# Altium footprint library CHIP_SMD.PcbLib: 26 footprints (part 1 of 2)
Each footprint in its own frame and in the unit in brackets; x right, y up, seen from the top. Pads: shape width x height; smd on the part's side, far side on the other; paste and mask are expansions set on the pad; w line width, h text height; cw(c..) or ccw(c..) is an arc to the next point about the centre after c.
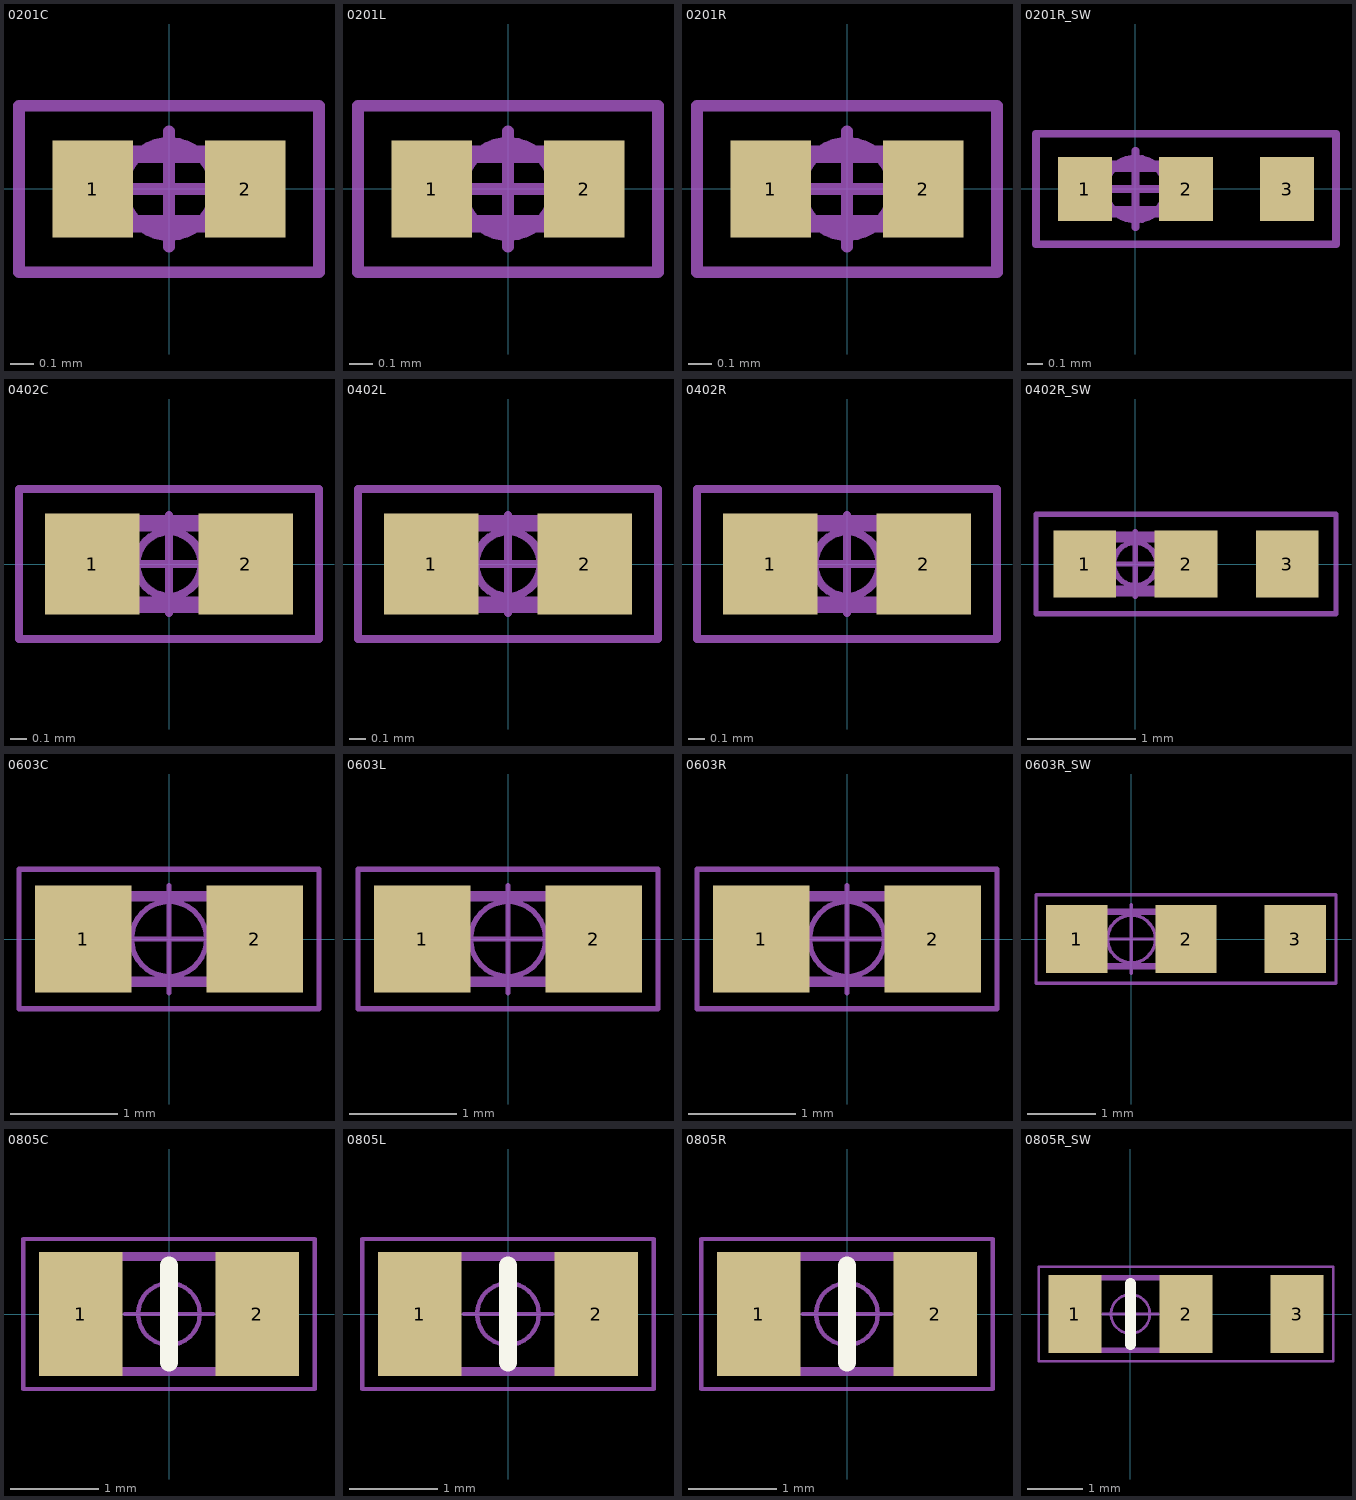
[diagram p0: the footprints below, top view; thin cyan lines are the x and y axes]

## 0201C [mm] "Chip Resistor, EIA 0201, Metric 0603, Body 0.6 x 0.3mm, IPC Medium Density"
height 0.28
pads (2):
  rect 0.35x0.42 smd: 1(-0.33,0) 2(0.33,0)
Mechanical 14:
  lines w0.075: -0.3,-0.15 -0.3,0.15 0.3,0.15 0.3,-0.15 -0.3,-0.15
  text ".Designator" at -0.15,-0.05 h0.1
Mechanical 15:
  circle w0.05: c0,0 r0.2
  lines w0.05: -0.3,0 0.3,0 ; 0,-0.25 0,0.25 ; -0.65,-0.36 -0.65,0.36 0.65,0.36 0.65,-0.36 -0.65,-0.36
3D body "CAPC0603X33N.stp": height 0.33, standoff 0, extent -0.315,-0.165 0.315,0.165

## 0201L [mm] "Chip Resistor, EIA 0201, Metric 0603, Body 0.6 x 0.3mm, IPC Medium Density"
height 0.28
pads (2):
  rect 0.35x0.42 smd: 1(-0.33,0) 2(0.33,0)
Mechanical 14:
  lines w0.075: -0.3,-0.15 -0.3,0.15 0.3,0.15 0.3,-0.15 -0.3,-0.15
  text ".Designator" at -0.15,-0.05 h0.1
Mechanical 15:
  circle w0.05: c0,0 r0.2
  lines w0.05: -0.3,0 0.3,0 ; 0,-0.25 0,0.25 ; -0.65,-0.36 0.65,-0.36 0.65,0.36 -0.65,0.36 -0.65,-0.36
3D body "L0201.step": height 0.3, standoff 0, extent -0.3,-0.15 0.3,0.15

## 0201R [mm] "Chip Resistor, EIA 0201, Metric 0603, Body 0.6 x 0.3mm, IPC Medium Density"
height 0.28
pads (2):
  rect 0.35x0.42 smd: 1(-0.33,0) 2(0.33,0)
Mechanical 14:
  lines w0.075: -0.3,-0.15 0.3,-0.15 0.3,0.15 -0.3,0.15 -0.3,-0.15
  text ".Designator" at -0.15,-0.05 h0.1
Mechanical 15:
  circle w0.05: c0,0 r0.2
  lines w0.05: -0.3,0 0.3,0 ; 0,-0.25 0,0.25 ; -0.65,-0.36 -0.65,0.36 0.65,0.36 0.65,-0.36 -0.65,-0.36
3D body "RESC0603X28N.stp": height 0.28, standoff 0, extent -0.325,-0.175 0.325,0.175

## 0201R_SW [mm] "Chip Resistor, EIA 0201, Metric 0603, Body 0.6 x 0.3mm, IPC Medium Density"
height 0.28
pads (3):
  rect 0.35x0.42 smd: 1(-0.33,0) 2(0.33,0) 3(0.99,0)
Mechanical 14:
  lines w0.075: -0.3,-0.15 0.3,-0.15 0.3,0.15 -0.3,0.15 -0.3,-0.15
  text ".Designator" at -0.15,-0.05 h0.1
Mechanical 15:
  circle w0.05: c0,0 r0.2
  lines w0.05: -0.3,0 0.3,0 ; 0,-0.25 0,0.25 ; -0.65,-0.36 -0.65,0.36 1.31,0.36 1.31,-0.36 -0.65,-0.36
3D body "RESC0603X28N.stp": height 0.28, standoff 0, extent -0.325,-0.175 0.325,0.175

## 0402C [mm] "Chip Resistor, EIA 0402, Metric 1005, Body 1.0x0.5mm, IPC Medium Density"
height 0.4
pads (2):
  rect 0.58x0.62 smd: 1(-0.47,0) 2(0.47,0)
Mechanical 14:
  lines w0.1: -0.5,-0.25 0.5,-0.25 0.5,0.25 -0.5,0.25 -0.5,-0.25
  text ".Designator" at -0.35,-0.1 h0.2
Mechanical 15:
  circle w0.05: c0,0 r0.2
  lines w0.05: -0.3,0 0.3,0 ; 0,-0.3 0,0.3 ; -0.92,-0.46 0.92,-0.46 0.92,0.46 -0.92,0.46 -0.92,-0.46
3D body "CAPC1005X55N.stp": height 0.55, standoff 0, extent -0.525,-0.275 0.525,0.275

## 0402L [mm] "Chip Resistor, EIA 0402, Metric 1005, Body 1.0x0.5mm, IPC Medium Density"
height 0.4
pads (2):
  rect 0.58x0.62 smd: 1(-0.47,0) 2(0.47,0)
Mechanical 14:
  lines w0.1: -0.5,-0.25 -0.5,0.25 0.5,0.25 0.5,-0.25 -0.5,-0.25
  text ".Designator" at -0.35,-0.1 h0.2
Mechanical 15:
  circle w0.05: c0,0 r0.2
  lines w0.05: -0.3,0 0.3,0 ; 0,-0.3 0,0.3 ; -0.92,-0.46 0.92,-0.46 0.92,0.46 -0.92,0.46 -0.92,-0.46
3D body "L0402.step": height 0.5, standoff 0, extent -0.5,-0.25 0.5,0.25

## 0402R [mm] "Chip Resistor, EIA 0402, Metric 1005, Body 1.0x0.5mm, IPC Medium Density"
height 0.4
pads (2):
  rect 0.58x0.62 smd: 1(-0.47,0) 2(0.47,0)
Mechanical 14:
  lines w0.1: -0.5,-0.25 0.5,-0.25 0.5,0.25 -0.5,0.25 -0.5,-0.25
  text ".Designator" at -0.35,-0.1 h0.2
Mechanical 15:
  circle w0.05: c0,0 r0.2
  lines w0.05: -0.3,0 0.3,0 ; 0,-0.3 0,0.3 ; -0.92,-0.46 0.92,-0.46 0.92,0.46 -0.92,0.46 -0.92,-0.46
3D body "RESC1005X40N.stp": height 0.4, standoff 0, extent -0.525,-0.275 0.525,0.275

## 0402R_SW [mm] "Chip Resistor, EIA 0402, Metric 1005, Body 1.0x0.5mm, IPC Medium Density"
height 0.4
pads (3):
  rect 0.58x0.62 smd: 1(-0.47,0) 2(0.47,0) 3(1.41,0)
Mechanical 14:
  lines w0.1: -0.5,-0.25 -0.5,0.25 0.5,0.25 0.5,-0.25 -0.5,-0.25
  text ".Designator" at -0.35,-0.1 h0.2
Mechanical 15:
  circle w0.05: c0,0 r0.2
  lines w0.05: -0.3,0 0.3,0 ; 0,-0.3 0,0.3 ; -0.92,-0.46 -0.92,0.46 1.86,0.46 1.86,-0.46 -0.92,-0.46
3D body "RESC1005X40N.stp": height 0.4, standoff 0, extent -0.525,-0.275 0.525,0.275

## 0603C [mm] "Chip Resistor, EIA 0603, Metric 1608, Body 1.6x0.8mm, IPC Medium Density"
height 0.55
pads (2):
  rect 0.9x1 smd: 1(-0.8,0) 2(0.8,0)
Mechanical 14:
  lines w0.1: -0.85,-0.4 -0.85,0.4 0.85,0.4 0.85,-0.4 -0.85,-0.4
  text ".Designator" at -0.7,-0.2 h0.4
Mechanical 15:
  circle w0.05: c0,0 r0.35
  lines w0.05: -0.5,0 0.5,0 ; 0,-0.5 0,0.5 ; -1.4,-0.65 1.4,-0.65 1.4,0.65 -1.4,0.65 -1.4,-0.65
3D body "CAPC1608X85N.stp": height 0.85, standoff 0, extent -0.875,-0.475 0.875,0.475

## 0603L [mm] "Chip Resistor, EIA 0603, Metric 1608, Body 1.6x0.8mm, IPC Medium Density"
height 0.55
pads (2):
  rect 0.9x1 smd: 1(-0.8,0) 2(0.8,0)
Mechanical 14:
  lines w0.1: -0.85,-0.4 0.85,-0.4 0.85,0.4 -0.85,0.4 -0.85,-0.4
  text ".Designator" at -0.7,-0.2 h0.4
Mechanical 15:
  circle w0.05: c0,0 r0.35
  lines w0.05: -0.5,0 0.5,0 ; 0,-0.5 0,0.5 ; -1.4,-0.65 1.4,-0.65 1.4,0.65 -1.4,0.65 -1.4,-0.65
3D body "L0603.step": height 0.5, standoff 0, extent -0.8,-0.4 0.8,0.4

## 0603R [mm] "Chip Resistor, EIA 0603, Metric 1608, Body 1.6x0.8mm, IPC Medium Density"
height 0.55
pads (2):
  rect 0.9x1 smd: 1(-0.8,0) 2(0.8,0)
Mechanical 14:
  lines w0.1: -0.85,-0.4 -0.85,0.4 0.85,0.4 0.85,-0.4 -0.85,-0.4
  text ".Designator" at -0.7,-0.2 h0.4
Mechanical 15:
  circle w0.05: c0,0 r0.35
  lines w0.05: -0.5,0 0.5,0 ; 0,-0.5 0,0.5 ; -1.4,-0.65 -1.4,0.65 1.4,0.65 1.4,-0.65 -1.4,-0.65
3D body "RESC1608X55N.stp": height 0.55, standoff 0, extent -0.875,-0.475 0.875,0.475

## 0603R_SW [mm] "Chip Resistor, EIA 0603, Metric 1608, Body 1.6x0.8mm, IPC Medium Density"
height 0.55
pads (3):
  rect 0.9x1 smd: 1(-0.8,0) 2(0.8,0) 3(2.4,0)
Mechanical 14:
  lines w0.1: -0.85,-0.4 -0.85,0.4 0.85,0.4 0.85,-0.4 -0.85,-0.4
  text ".Designator" at -0.7,-0.2 h0.4
Mechanical 15:
  circle w0.05: c0,0 r0.35
  lines w0.05: -0.5,0 0.5,0 ; 0,-0.5 0,0.5 ; -1.4,-0.65 -1.4,0.65 3,0.65 3,-0.65 -1.4,-0.65
3D body "RESC1608X55N.stp": height 0.55, standoff 0, extent -0.875,-0.475 0.875,0.475

## 0805C [mm] "Chip Resistor, EIA 0805, Metric 2012, Body 2.0x1.2mm, IPC Medium Density"
height 0.6
pads (2):
  rect 0.95x1.4 smd: 1(-1,0) 2(1,0)
Top Overlay:
  lines w0.2: 0,-0.55 0,0.55
Mechanical 14:
  lines w0.1: -1.05,-0.65 -1.05,0.65 1.05,0.65 1.05,-0.65 -1.05,-0.65
  text ".Designator" at -0.85,-0.25 h0.5
Mechanical 15:
  circle w0.05: c0,0 r0.35
  lines w0.05: -0.5,0 0.5,0 ; 0,-0.5 0,0.5 ; -1.65,-0.85 -1.65,0.85 1.65,0.85 1.65,-0.85 -1.65,-0.85
3D body "CAPC2012X110N.stp": height 1.1, standoff 0, extent -1.05,-0.675 1.05,0.675

## 0805L [mm] "Chip Resistor, EIA 0805, Metric 2012, Body 2.0x1.2mm, IPC Medium Density"
height 0.6
pads (2):
  rect 0.95x1.4 smd: 1(-1,0) 2(1,0)
Top Overlay:
  lines w0.2: 0,-0.55 0,0.55
Mechanical 14:
  lines w0.1: -1.05,-0.65 -1.05,0.65 1.05,0.65 1.05,-0.65 -1.05,-0.65
  text ".Designator" at -0.85,-0.25 h0.5
Mechanical 15:
  circle w0.05: c0,0 r0.35
  lines w0.05: -0.5,0 0.5,0 ; 0,-0.5 0,0.5 ; -1.65,-0.85 1.65,-0.85 1.65,0.85 -1.65,0.85 -1.65,-0.85
3D body "L0805.step": height 0.8, standoff 0, extent -1,-0.625 1,0.625

## 0805R [mm] "Chip Resistor, EIA 0805, Metric 2012, Body 2.0x1.2mm, IPC Medium Density"
height 0.6
pads (2):
  rect 0.95x1.4 smd: 1(-1,0) 2(1,0)
Top Overlay:
  lines w0.2: 0,-0.55 0,0.55
Mechanical 14:
  lines w0.1: -1.05,-0.65 -1.05,0.65 1.05,0.65 1.05,-0.65 -1.05,-0.65
  text ".Designator" at -0.85,-0.25 h0.5
Mechanical 15:
  circle w0.05: c0,0 r0.35
  lines w0.05: -0.5,0 0.5,0 ; 0,-0.5 0,0.5 ; -1.65,-0.85 -1.65,0.85 1.65,0.85 1.65,-0.85 -1.65,-0.85
3D body "RESC2012X60N.stp": height 0.6, standoff 0, extent -1.1,-0.675 1.1,0.675

## 0805R_SW [mm] "Chip Resistor, EIA 0805, Metric 2012, Body 2.0x1.2mm, IPC Medium Density"
height 0.6
pads (3):
  rect 0.95x1.4 smd: 1(-1,0) 2(1,0) 3(3,0)
Top Overlay:
  lines w0.2: 0,-0.55 0,0.55
Mechanical 14:
  lines w0.1: -1.05,-0.65 1.05,-0.65 1.05,0.65 -1.05,0.65 -1.05,-0.65
  text ".Designator" at -0.85,-0.25 h0.5
Mechanical 15:
  circle w0.05: c0,0 r0.35
  lines w0.05: -0.5,0 0.5,0 ; 0,-0.5 0,0.5 ; -1.65,-0.85 3.65,-0.85 3.65,0.85 -1.65,0.85 -1.65,-0.85
3D body "RESC2012X60N.stp": height 0.6, standoff 0, extent -1.1,-0.675 1.1,0.675